# EAGLE library part LTC3789EGNPBF (library LTC-LTC3789EGN#PBF)
High Efficiency, Synchronous, 4-Switch Buck-Boost Controller
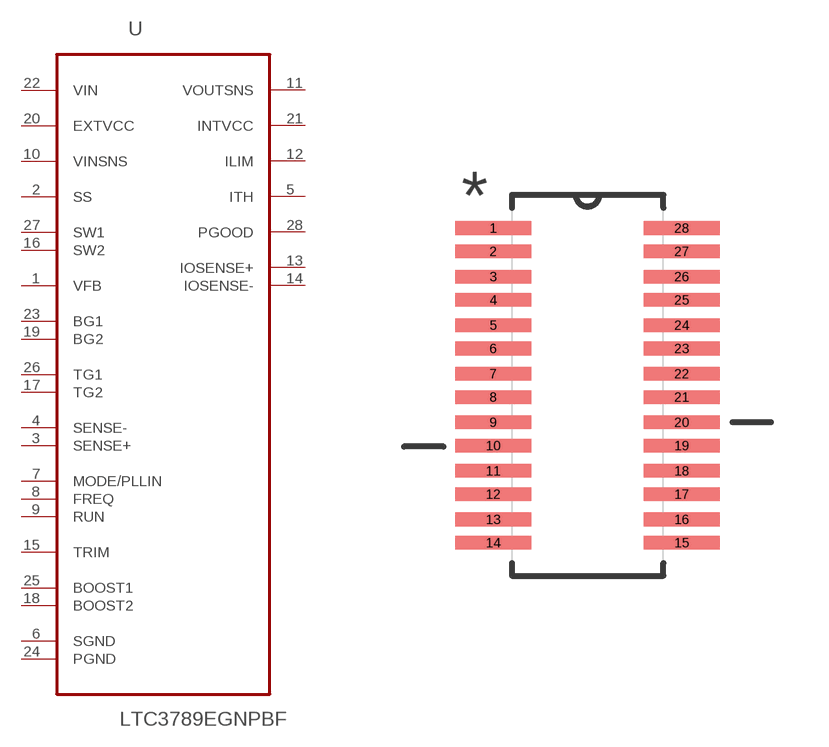
[diagram p0: symbol with the pads of SOP65P640X120-28N; footprint SOP65P640X120-28N]

Designator prefix U

## LTC3789EGNPBF (MPN: LTC3789EGN#PBF; OC_FARNELL: 2102662; OC_NEWARK: 24T0452; PACKAGE: TSSOP-28; SUPPLIER: LINEAR TECHNOLOGY)  [SOP65P640X120-28N]
1  VFB  in
2  SS  in
3  SENSE+  in
4  SENSE-  in
5  ITH  out
6  SGND  pas
7  MODE/PLLIN  in
8  FREQ  in
9  RUN  in
10  VINSNS  in
11  VOUTSNS  out
12  ILIM
13  IOSENSE+
14  IOSENSE-
15  TRIM  in
16  SW2  in
17  TG2  in
18  BOOST2  in
19  BG2  in
20  EXTVCC  pwr
21  INTVCC  out
22  VIN  pwr
23  BG1  in
24  PGND  pas
25  BOOST1  in
26  TG1  in
27  SW1  in
28  PGOOD  out

## Footprint SOP65P640X120-28N (pad centres in mm)
smd 1.981 x 0.356: 1 -2.464,4.115; 2 -2.464,3.505; 3 -2.464,2.845; 4 -2.464,2.235; 5 -2.464,1.575; 6 -2.464,0.965; 7 -2.464,0.305; 8 -2.464,-0.305; 9 -2.464,-0.965; 10 -2.464,-1.575; 11 -2.464,-2.235; 12 -2.464,-2.845; 13 -2.464,-3.505; 14 -2.464,-4.115; 15 2.464,-4.115; 16 2.464,-3.505; 17 2.464,-2.845; 18 2.464,-2.235; 19 2.464,-1.575; 20 2.464,-0.965; 21 2.464,-0.305; 22 2.464,0.305; 23 2.464,0.965; 24 2.464,1.575; 25 2.464,2.235; 26 2.464,2.845; 27 2.464,3.505; 28 2.464,4.115